# EAGLE library part MCP3201-CI/P (library MCP3201-CI_P)
A/D Converter
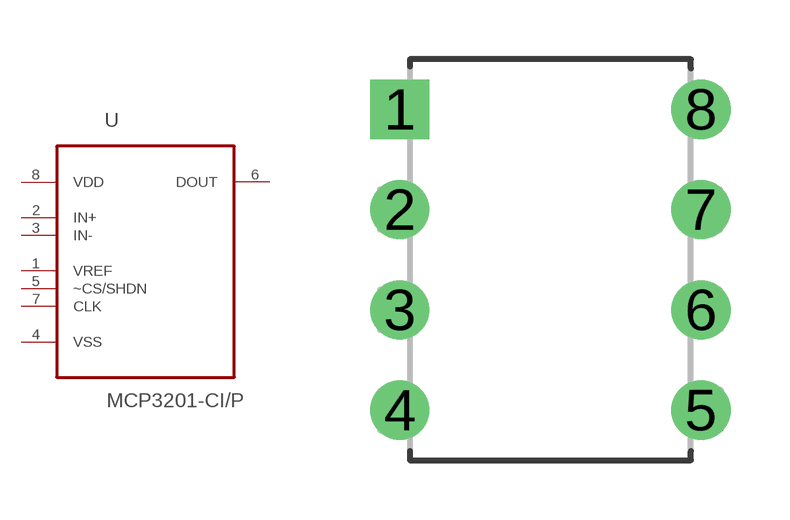
[diagram p0: symbol with the pads of DIP254P762X533-8; footprint DIP254P762X533-8]

Designator prefix -

## MCP3201-CI/P (Availability: Unavailable; Description: Single Channel SPI Serial Interface 2.7 V 12-Bit A/D Converter - PDIP-8; MF: Microchip; MP: MCP3201-CI/P; Package: DIP-8 Microchip; Price: None)  [DIP254P762X533-8]
1  VREF  in
2  IN+  in
3  IN-  in
4  VSS  pas
5  ~CS/SHDN  in
6  DOUT  out
7  CLK  in
8  VDD  pwr

## Footprint DIP254P762X533-8 (pad centres in mm)
drill 0.991 square: 1 -7.62,7.62
drill 0.991: 2 -7.62,5.08; 3 -7.62,2.54; 4 -7.62,0; 5 0,0; 6 0,2.54; 7 0,5.08; 8 0,7.62